# Altium schematic symbol library 4脚3225晶振.SCHLIB: 1 symbol
Pins are listed as number, name and electrical type; pins without a type are passive.

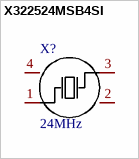
[diagram p0: symbol X322524MSB4SI]

## X322524MSB4SI
designator X?, comment 24MHz
Manufacturer: YXC(扬兴晶振); Symbol: X322524MSB4SI; Add into BOM: yes; Crystal Type: 贴片晶振; Normal temperature Frequency Tolerance: ±10ppm; External load capacitor: 20pF; Frequency Stability(Full temperature range): ±30ppm; Device: X322524MSB4SI; LCSC Part Name: 24MHz ±10ppm 20pF; Supplier Part: C15643; Manufacturer Part: X322524MSB4SI; Supplier Footprint: SMD3225-4P; JLCPCB Part Class: 扩展库; Datasheet: https://atta.szlcsc.com/upload/public/pdf/source/20210329/C112971_1F611BDC486E193C1706F6D8EB5AA189.pdf; Supplier: LCSC; Convert to PCB: yes; Value: 24MHz; Operating Temperature: -40℃~+85℃; Name: 24MHz
footprint CRYSTAL-SMD_4P-L3.2-W2.5-BL
pins: 1 OSC1, 2 GND, 3 OSC2, 4 GND